# EAGLE library part LTC4412 (library LTC4412)
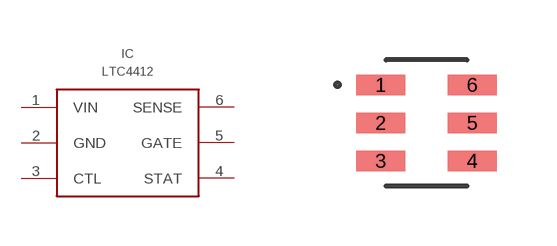
[diagram p0: symbol with the pads of LTC4412; footprint LTC4412]

Designator prefix IC

## LTC4412  [LTC4412]
1  VIN
2  GND
3  CTL
4  STAT
5  GATE
6  SENSE

## Footprint LTC4412 (pad centres in mm)
smd 1.219 x 0.508: 1 -1.143,0.95; 2 -1.143,0; 3 -1.143,-0.95; 4 1.143,-0.95; 5 1.143,0; 6 1.143,0.95